# EAGLE library part SST25PF040C-40V/SN (library Memory)
IC FLASH 4M SPI 40MHZ 8SOIC Manufacturer's datasheet <http://ww1.microchip.com/downloads/en/DeviceDoc/SST25PF040C-4-Mbit-3.3V-SPI-Serial-Flash-Data-Sheet-DS20005397E.pdf>
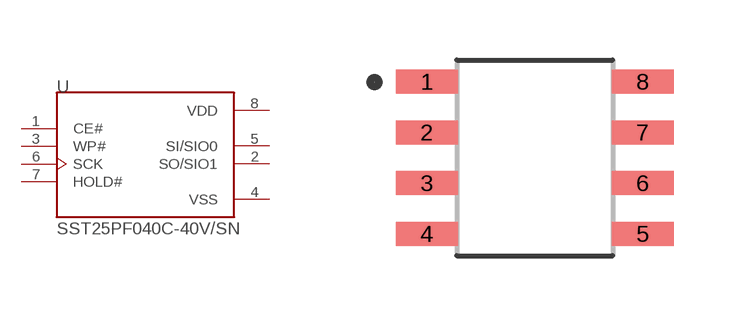
[diagram p8: symbol with the pads of SOIC8; footprint SOIC8]

Designator prefix U

## SST25PF040C-40V/SN (CREATED_BY: PCBLayout.com; DIGIKEY_PART_NUMBER: SST25PF040C-40V/SN-ND; MANUFACTURER: Microchip Technology; MPN: SST25PF040C-40V/SN; PACKAGE: 8-SOIC)  [SOIC8]
1  CE#  in
2  SO/SIO1
3  WP#  in
4  VSS  pwr
5  SI/SIO0
6  SCK  in
7  HOLD#  in
8  VDD  pwr

## Footprint SOIC8 (pad centres in mm)
smd 1.55 x 0.6: 1 -2.7,1.905; 2 -2.7,0.635; 3 -2.7,-0.635; 4 -2.7,-1.905; 5 2.7,-1.905; 6 2.7,-0.635; 7 2.7,0.635; 8 2.7,1.905